# Altium footprint library Standardbauteile.PcbLib: 17 footprints (part 2 of 2)
Each footprint in its own frame and in the unit in brackets; x right, y up, seen from the top. Pads: shape width x height; smd on the part's side, far side on the other; paste and mask are expansions set on the pad; w line width, h text height; cw(c..) or ccw(c..) is an arc to the next point about the centre after c.
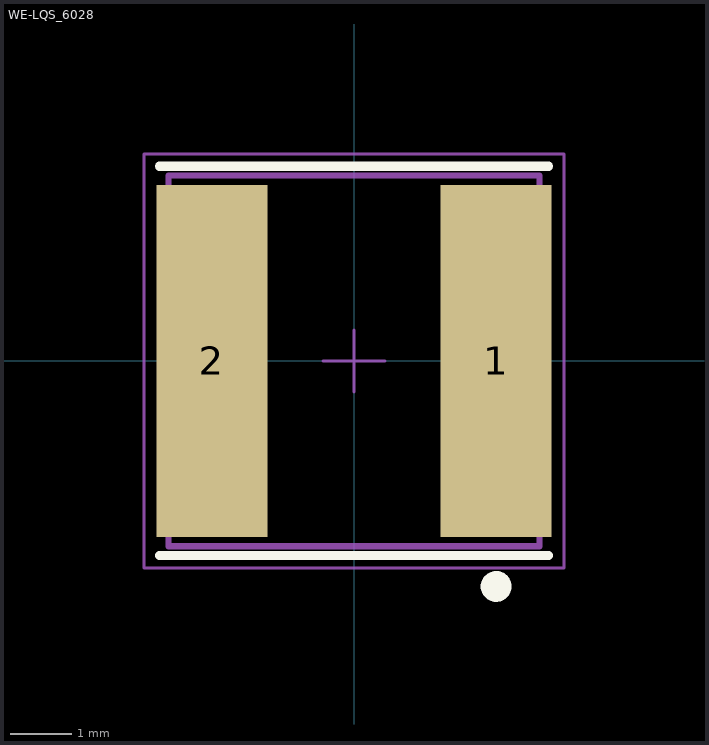
[diagram p1: the footprint, top view; thin cyan lines are the x and y axes]

## WE-LQS_6028 [mm] "SMD Power Inductor, 2-Leads, body 6x6mm"
height 2.8
pads (2):
  rect 1.8x5.7 smd: 1(2.3,0) 2(-2.3,0)
Top Overlay:
  circle w0.25: c2.3,-3.65 r0.125
  lines w0.15: -3.15,-3.15 3.15,-3.15 ; -3.15,3.15 3.15,3.15
Top 3D Body:
  circle w0.1: c2.2,-2.2 r0.3
  lines w0.1: -3,-3 3,-3 3,3 -3,3 -3,-3
Top Courtyard:
  lines w0.05: -0.5,0 0.5,0 ; 0,-0.5 0,0.5 ; -3.4,-3.35 3.4,-3.35 3.4,3.35 -3.4,3.35 -3.4,-3.35
Top Designator:
  text ".Designator" at -7.498,-0.5 h1.5
Top Component Outline:
  circle w0.1: c2.2,-2.2 r0.3
  lines w0.1: -3,-3 3,-3 3,3 -3,3 -3,-3
3D body "LQS_6028.stp": height 2.83, standoff 0.02, extent -3,-3 3,3